# Altium schematic symbol library Icarus Sch_Lib.SchLib: 21 symbols
Pins are listed as number, name and electrical type; pins without a type are passive.

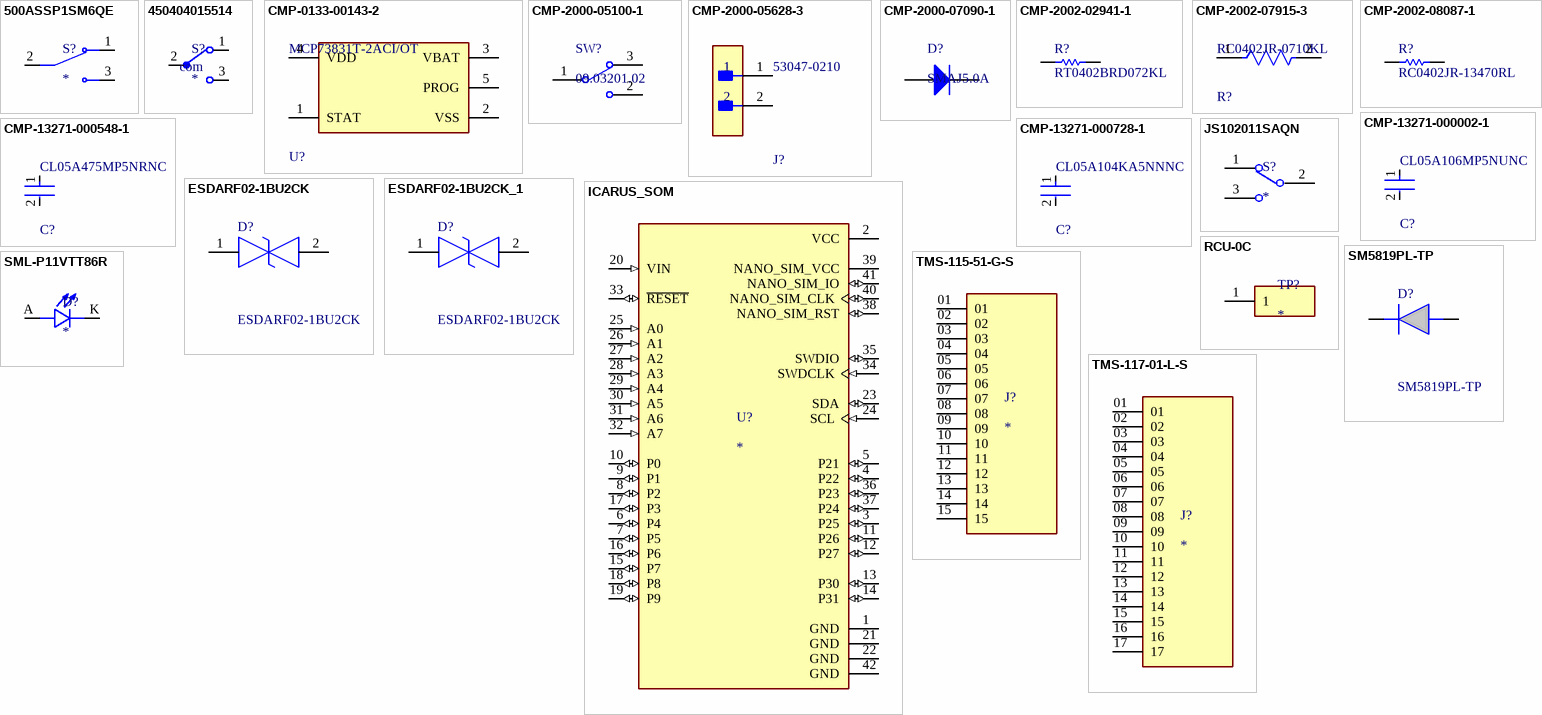
[diagram p0: symbols 500ASSP1SM6QE to TMS-117-01-L-S]

## 500ASSP1SM6QE
designator S?
Slide Switch SPDT Surface Mount, Right Angle; MP: 500ASSP1SM6QE; MF: E-Switch; Digi-Key_Part_Number: EG5810TR-ND; Check_prices: https://www.snapeda.com/parts/500ASSP1SM6QE/E-Switch/view-part/?ref=eda; Package: None; SnapEDA_Link: https://www.snapeda.com/parts/500ASSP1SM6QE/E-Switch/view-part/?ref=snap; Value: *; Purchase-URL: https://pricing.snapeda.com/search/part/500ASSP1SM6QE/?ref=eda
footprint SW_500ASSP1SM6QE
pins: 1 NC, 2 COM, 3 NO

## 450404015514
designator S?
MINI SLIDE SWITCH 6.7 X 2.7 MM.; MF: WÃ¼rth Elektronik; MP: 450404015514; Package: None; Price: None; Check_prices: https://www.snapeda.com/parts/450404015514/Wurth+Elektronik/view-part/?ref=eda; Value: *; SnapEDA_Link: https://www.snapeda.com/parts/450404015514/Wurth+Elektronik/view-part/?ref=snap; Availability: In Stock; Purchase-URL: https://pricing.snapeda.com/search/part/450404015514/?ref=eda
footprint 450404015514
pins: 1, 2, 3
text: com

## CMP-0133-00143-2
designator U?, comment MCP73831T-2ACI/OT
IC CONTROLLR LI-ION 4.2V SOT23-5; Max Power Dissipation: 1.54W; Output Current: 500mA; Max Output Voltage: 4.5V; Number of Outputs: 1; Min Output Voltage: 4.168V; Min Supply Voltage: 3.75V; Max Input Voltage: 6V; Voltage Rating: 4.534V; Drain to Source Resistance: 350mR; Max Operating Temperature: 85°C; Length: 0.122inch; Number of Pins: 5; REACH SVHC: No SVHC; Radiation Hardening: No; Min Operating Temperature: -40°C; Weight: 0.00709oz; Contact Plating: Tin; Termination: SMD/SMT; Case/Package: SOT-23; Mount: Surface Mount; Width: 0.071inch; Packaging: Tape and Reel; Number of Cells: 1; Max Charge Current: 500mA; Height: 0.051inch; Number of Channels: 1; Output Voltage: 4.2V; Max Supply Voltage: 6V; Lead Free: Lead Free
footprint FP-C04-091-OT-IPC_C
footprint FP-C04-091-OT-IPC_B
footprint FP-C04-091-OT-MFG
footprint FP-C04-091-OT-IPC_A
pins: 1 STAT, 2 VSS (power), 3 VBAT (power), 4 VDD (power), 5 PROG

## CMP-2000-05100-1
designator SW?, comment 09.03201.02
PCB Switch, SPDT, 12 V, 500 mA, 6 W, -40 to 85 degC, 3-Pin THD, RoHS, Tape and Reel; Manufacturer: EOZ; Number of Positions: 2; Contact Current Rating: 500mA@24V; Mechanical Life: 10000Operations; Actuator Type: Slide; Contact Configuration: SPST; Package Style: SIP; Manufacturer URL: http://eozonline.com/; Mounting Type: ThroughHole; Operating Temperature Range: -40→+85degC; Datasheet Version: Apr-10; Datasheet URL: http://www.farnell.com/datasheets/1683364.pdf; Maximum Operating Temperature: +85degC; Minimum Operating Temperature: -40degC; Contact Material: GoldoverNickelPlated
footprint EOZ-09.03201.02-3 (TH, 3-Leads, Body 10x2.5mm, Pitch 2.54mm)
pins: 1, 2, 3

## CMP-2000-05628-3
designator J?, comment 53047-0210
CONN HEADER VERT 2POS 1.25MM; Manufacturer: Molex; Conn Gender: Male; Voltage Rating: 125V; Conn Orientation: Vertical; Number Of Contacts: 2; Current Rating: 1A; Contact Material: Tin; Temperature Range Low: -40°C; ComponentLink2URL: http://www.molex.com/webdocs/datasheets/pdf/en-us/0530470210_PCB_HEADERS.pdf; Mouser Description: 1.25mm Pitch PicoBlade™ Wire-to-Board Header, Vertical, with Friction Lock, 2 Circuits; Manufacturer Part Number: 53047-0210; Temperature Range High: +85°C; ComponentLink2Description: Datasheet; Automotive: No; RoHS: TRUE; Ambient Temperature Range High: +85°C; Octopart: https://octopart.com/53047-0210-molex-276772; Footprint Url: https://www.molex.com/pdm_docs/sd/530470210_sd.pdf; Lead Free: Yes; Pitch: 1.25mm; Temperature: -40°C to +85°C; Device Class L2: Headers and Wire Housings; Package: 0; Ambient Temperature Range Low: -40°C; Digikey Description: CONN HEADER VERT 2POS 1.25MM; Category: Conn; Device Class L3: unset; Number Of Rows: 1; Device Class L1: Connectors; Height: 4.4mm
footprint FP-53047-0210-MFG
pins: 1, 2

## CMP-2000-07090-1
designator D?, comment SMAJ5.0A
SMAJ Transient Voltage Suppressor Diode Series, 3.5 V, -55 to 150 degC, 2-Pin SMA, RoHS, Tape and Reel; Manufacturer: Bourns; EDA / CAD Models: DownloadfromAcceleratedDesigns; Unidirectional Channels: 1; Voltage - Breakdown (Min): 6.4V; Voltage - Reverse Standoff (Typ): 5V; Voltage - Clamping (Max) @ Ipp: 9.2V; Other Names: SMAJ5.0ABDKR; Type: Zener; Catalog Drawings: SMAJSeriesFootprintSMAJ,SMBJSeries; Featured Product: SMAJ/SMBJ/SMCJ/SMLJDiscreteTVSDiodes; Power - Peak Pulse: 400W; Current - Peak Pulse (10/1000µs): 43.5A; Power Line Protection: No; Online Catalog: SMAJSeries; Supplier Device Package: SMA(DO-214AC); Operating Temperature: -55°C~150°C(TJ); Package Description: 2-Pin Surface Mount Device, Body 4.315 x 2.605 mm; Datasheet URL: https://datasheet.ciiva.com/25624/0900766b8112213b-25624680.pdf; Manufacturer URL: http://www.bourns.com/; Datasheet Version: 08/2012; Series: SMAJ; Family: TVS-Diodes; Bidirectional Channels: -; Applications: GeneralPurpose; Package Reference: SMA-2; Standard Package: 1; Package / Case: DO-214AC,SMA; Category: CircuitProtection; RoHS Information: SMAJSeriesMaterialDeclaration; Mounting Technology: SurfaceMount; Capacitance @ Frequency: -; Packaging: Digi-Reel®; Mounting Type: SurfaceMount
footprint BOUR-SMA-2_V (SMA, 2-Leads, Body 4.57x2.92mm)
pins: 1 A, 2 K

## CMP-2002-02941-1
designator R?, comment RT0402BRD072KL
RES 2K; Manufacturer: Yageo; Part Number: RT0402BRD072KL
footprint RESC1005X35X25NL10T10 (Chip Resistor, 2-Leads, Body 1.00x0.50mm, IPC Medium Density)
footprint RESC1005X35X25ML10T10 (Chip Resistor, 2-Leads, Body 1.00x0.50mm, IPC Low Density)
footprint RESC1005X35X25LL10T10 (Chip Resistor, 2-Leads, Body 1.00x0.50mm, IPC High Density)
pins: 1, 2
1 alternate drawing of the same symbol

## CMP-2002-07915-3
designator R?, comment RC0402JR-0710KL
RES 10K OHM 5% 1/16W 0402; Max Power Dissipation: 63mW; Temperature Coefficient: 100ppm/°C; Power Rating: 62.5mW; Resistance: 10kR; Voltage Rating: 50V; Size Code: 0402; Resistance Tolerance: 5%; Packaging: Tape and Reel; Case Code (Metric): 1005; Lead Free: Lead Free; Resistor Type: Thick Film; Min Operating Temperature: -55°C; Military Standard: Not; Depth: 0.5mm; Series: RC; Case/Package: 0402; Construction: Rectangular; Number of Terminations: 2; Package Quantity: 1; Termination: SMD/SMT; Length: 0.039inch; Case Code (Imperial): 0402; Height: 0.016inch; Features: Moisture Resistant; RoHS Compliant: Yes; Max Operating Temperature: 155°C; Tolerance: 5%; Width: 0.02inch
footprint FP-RC0402-0_4-MFG
footprint FP-RC0402-0_4-IPC_C
footprint FP-RC0402-0_4-IPC_A
footprint FP-RC0402-0_4-IPC_B
pins: 1, 2

## CMP-2002-08087-1
designator R?, comment RC0402JR-13470RL
RES 470R; Manufacturer: Yageo; Part Number: RC0402JR-13470RL
footprint RESC1005X40X25ML05T10 (Chip Resistor, 2-Leads, Body 1.00x0.50mm, IPC Low Density)
footprint RESC1005X40X25LL05T10 (Chip Resistor, 2-Leads, Body 1.00x0.50mm, IPC High Density)
footprint RESC1005X40X25NL05T10 (Chip Resistor, 2-Leads, Body 1.00x0.50mm, IPC Medium Density)
pins: 1, 2
1 alternate drawing of the same symbol

## CMP-13271-000002-1
designator C?, comment CL05A106MP5NUNC
CAP CER 10UF 10V X5R 0402; Manufacturer: Samsung; Temperature Coefficient: 15%; Tolerance: 20%; Material: Ceramic; Octopart: https://octopart.com/cl05a106mp5nunc-samsung-22457395; Voltage Rating: 10V; RoHS: TRUE; Value: 10uF; Height: 0.7mm; Digikey Description: CAP CER 10UF 10V X5R 0402; Automotive: No; Package: CL05A106MP5NUNC; Device Class L1: Passive Components; Capacitance: 10uF; Temperature Range High: +85°C; ComponentLink2Description: Datasheet; Device Class L2: Capacitors; Temperature Characteristic: X5R; Manufacturer Part Number: CL05A106MP5NUNC; Temperature: -55°C to +85°C; ComponentLink2URL: http://www.samsungsem.com/kr/support/product-search/mlcc/__icsFiles/afieldfile/2019/05/10/19-CL05A106MP5NUNC.pdf; Device Class L3: Ceramic Capacitors; Category: Cap; Temperature Range Low: -55°C; Ipc Land Pattern Name: CAPC10050X50; Lead Free: Yes
footprint FP-CL05A106MP5NUNC-IPC_C
footprint FP-CL05A106MP5NUNC-IPC_B
footprint FP-CL05A106MP5NUNC-MFG
footprint FP-CL05A106MP5NUNC-IPC_A
pins: 1, 2

## CMP-13271-000548-1
designator C?, comment CL05A475MP5NRNC
Cap Ceramic 4.7uF 10V X5R ±20% SMD 0402 +85°C Paper T/R; Capacitance: 4.7uF; Max Operating Temperature: 85°C; Lead Free: Lead Free; Tolerance: 20%; Voltage Rating: 10V; Dielectric: X5R; Width: 0.02inch; Length: 0.039inch; Case/Package: 0402; Min Operating Temperature: -55°C; Packaging: Tape and Reel; Thickness: 0.022inch; Case Code (Imperial): 0402; Package Quantity: 10000; Case Code (Metric): 1005; Mount: Surface Mount
footprint FP-CL282-IPC_C
footprint FP-CL282-IPC_A
footprint FP-CL282-IPC_B
pins: 1, 2

## CMP-13271-000728-1
designator C?, comment CL05A104KA5NNNC
Cap Ceramic 100nF 25V X5R ±10% SMD 0402 +85°C Paper T/R; Package Quantity: 1; Height: 0.5mm; Case Code (Metric): 1005; Thickness: 0.022inch; Mount: Surface Mount; Lead Free: Lead Free; Case Code (Imperial): 0402; Packaging: Tape and Reel; Depth: 0.5mm; Voltage: 25V; Min Operating Temperature: -55°C; Voltage Rating: 25V; Dielectric: X5R; Case/Package: 0402; Tolerance: 10%; Width: 0.02inch; Max Operating Temperature: 85°C; Capacitance: 100nF; Length: 1mm; Radiation Hardening: No; Voltage Rating (DC): 25V
footprint FP-CL278-IPC_B
footprint FP-CL278-IPC_C
footprint FP-CL278-IPC_A
pins: 1, 2

## ESDARF02-1BU2CK
designator D?
STMicroelectronics ESDARF02-1BU2CK Bi-Directional ESD Protection Diode, 20W peak, 2-Pin ST-0201; Geometry.Height: 0.33mm; Mouser Part Number: 511-ESDARF02-1BU2CK; Mouser Price/Stock: https://www.mouser.co.uk/ProductDetail/STMicroelectronics/ESDARF02-1BU2CK?qs=Ng9CY5lTJpiKVTbvT0A0SQ%3D%3D; Manufacturer_Name: STMicroelectronics; Manufacturer_Part_Number: ESDARF02-1BU2CK; Datasheet Link: https://www.st.com/resource/en/datasheet/esdarf02-1bu2ck.pdf
footprint ESDARF021BU2CK
pins: 1, 2

## ESDARF02-1BU2CK_1
designator D?, comment ESDARF02-1BU2CK
STMicroelectronics ESDARF02-1BU2CK Bi-Directional ESD Protection Diode, 20W peak, 2-Pin ST-0201; Geometry.Height: 0.33mm; Mouser Part Number: 511-ESDARF02-1BU2CK; Mouser Price/Stock: https://www.mouser.co.uk/ProductDetail/STMicroelectronics/ESDARF02-1BU2CK?qs=Ng9CY5lTJpiKVTbvT0A0SQ%3D%3D; Manufacturer_Name: STMicroelectronics; Manufacturer_Part_Number: ESDARF02-1BU2CK; Datasheet Link: https://www.st.com/resource/en/datasheet/esdarf02-1bu2ck.pdf
footprint ESDARF021BU2CK
pins: 1, 2

## ICARUS_SOM
designator U?
Module for IoT connectivity. Includes global LTE-M & NB-IoT, GPS, Accelerometer as well as an eSIM for connectivity out of the box.; MP: Icarus SOM; MF: Actinius; Price: None; Availability: Not in stock; Value: *; Package: None
footprint MODULE_ICARUS_SOM
pins: 1 GND (power), 2 VCC (power), 3 P25 (io), 4 P22 (io), 5 P21 (io), 6 P4 (io), 7 P5 (io), 8 P2 (io), 9 P1 (io), 10 P0 (io), 11 P26 (io), 12 P27 (io), 13 P30 (io), 14 P31 (io), 15 P7 (io), 16 P6 (io), 17 P3 (io), 18 P8 (io), 19 P9 (io), 20 VIN (in), 21 GND (power), 22 GND (power), 23 SDA (io), 24 SCL (in), 25 A0 (in), 26 A1 (in), 27 A2 (in), 28 A3 (in), 29 A4 (in), 30 A5 (in), 31 A6 (in), 32 A7 (in), 33 ~{RESET} (io), 34 SWDCLK (in), 35 SWDIO (io), 36 P23 (io), 37 P24 (io), 38 NANO_SIM_RST (io), 39 NANO_SIM_VCC (power), 40 NANO_SIM_CLK (io), 41 NANO_SIM_IO (io), 42 GND (power)

## JS102011SAQN
designator S?
Slide Switch SPDT Surface Mount, Right Angle; MP: JS102011SAQN; MF: C&K; Check_prices: https://www.snapeda.com/parts/JS102011SAQN/C%2526K/view-part/?ref=eda; Digi-Key_Part_Number: 401-1999-2-ND; Package: None; Value: *; SnapEDA_Link: https://www.snapeda.com/parts/JS102011SAQN/C%2526K/view-part/?ref=snap; Purchase-URL: https://pricing.snapeda.com/search/part/JS102011SAQN/?ref=eda
footprint SW_JS102011SAQN
pins: 1, 2, 3

## RCU-0C
designator TP?
Natural PC Test Point - - Plating Surface Mount Mounting Type; MF: TE Connectivity AMP Connectors; MP: RCU-0C; Package: None; Value: *; Purchase-URL: https://pricing.snapeda.com/search/part/RCU-0C/?ref=eda; Availability: In Stock; Check_prices: https://www.snapeda.com/parts/RCU-0C/TE+Connectivity/view-part/?ref=eda; SnapEDA_Link: https://www.snapeda.com/parts/RCU-0C/TE+Connectivity/view-part/?ref=snap; Price: None
footprint TP+195X110
pins: 1

## SM5819PL-TP
designator D?
Schottky Barrier Rectifiers; Manufacturer_Name: MCC; Geometry.Height: 1.2mm; Mouser Part Number: 833-SM5819PL-TP; Mouser Price/Stock: https://www.mouser.co.uk/ProductDetail/Micro-Commercial-Components-MCC/SM5819PL-TP?qs=SdqRYZZ9IxAC1pyGL%2FvLRg%3D%3D; Manufacturer_Part_Number: SM5819PL-TP; Datasheet Link: https://mccsemi.com/pdf/Products/SM5817PL-SM5819PL(SOD-123FL).pdf
footprint SODFL3716X120N
pins: 1 K, 2 A

## SML-P11VTT86R
designator D?
Red 626nm LED Indication - Discrete 1.8V 0402 (1006 Metric); MF: Rohm; MP: SML-P11VTT86R; Purchase-URL: https://pricing.snapeda.com/search?q=SML-P11VTT86R&ref=eda; Package: 0402 Rohm; Check_prices: https://www.snapeda.com/parts/SML-P11VTT86R/Rohm/view-part/?ref=eda; Value: *; SnapEDA_Link: https://www.snapeda.com/parts/SML-P11VTT86R/Rohm/view-part/?ref=snap; Digi-Key_Part_Number: 846-SML-P11VTT86RTR-ND
footprint LED_SML-P11VTT86R
pins: A, K

## TMS-115-51-G-S
designator J?
MP: TMS-115-51-G-S; Package: None; Price: None; Value: *; Availability: Unavailable
footprint SAMTEC_TMS-115-51-G-S
pins: 01, 02, 03, 04, 05, 06, 07, 08, 09, 10, 11, 12, 13, 14, 15

## TMS-117-01-L-S
designator J?
MP: TMS-117-01-L-S; Package: None; Price: None; Value: *; Availability: Unavailable
footprint SAMTEC_TMS-117-01-L-S
pins: 01, 02, 03, 04, 05, 06, 07, 08, 09, 10, 11, 12, 13, 14, 15, 16, 17